# EAGLE library part LM1881 (library TinyNES_Library)
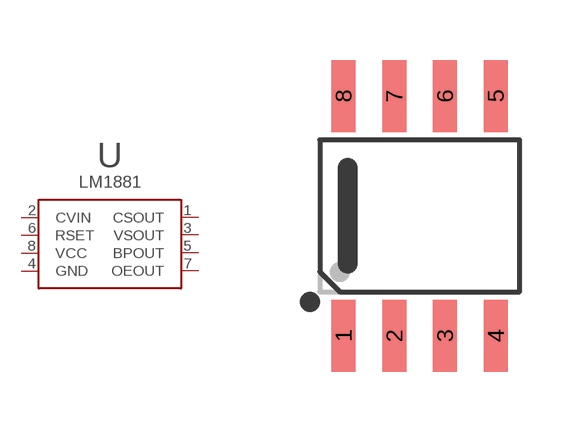
[diagram p21: symbol with the pads of SOIC-8; footprint SOIC-8]

Designator prefix U

## LM1881  [SOIC-8]
1  CSOUT
2  CVIN
3  VSOUT
4  GND
5  BPOUT
6  RSET
7  OEOUT
8  VCC

## Footprint SOIC-8 (pad centres in mm)
smd 0.6 x 1.8: 1 -1.905,-3; 2 -0.635,-3; 3 0.635,-3; 4 1.905,-3; 5 1.905,3; 6 0.635,3; 7 -0.635,3; 8 -1.905,3